# Altium schematic symbol library WireHousingMales6.SchLib: 1 symbol
Pins are listed as number, name and electrical type; pins without a type are passive.

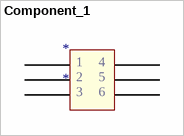
[diagram p0: symbol Component_1]

## Component_1
designator *
pins: ?1 (power), ?2 (power), ?3 (power), ?4 (power), ?5 (power), ?6 (power)
text: 1; 4; 2; 5; 3; 6